# Altium integrated library NSC Switcher.IntLib: 922 symbols (part 19 of 24)
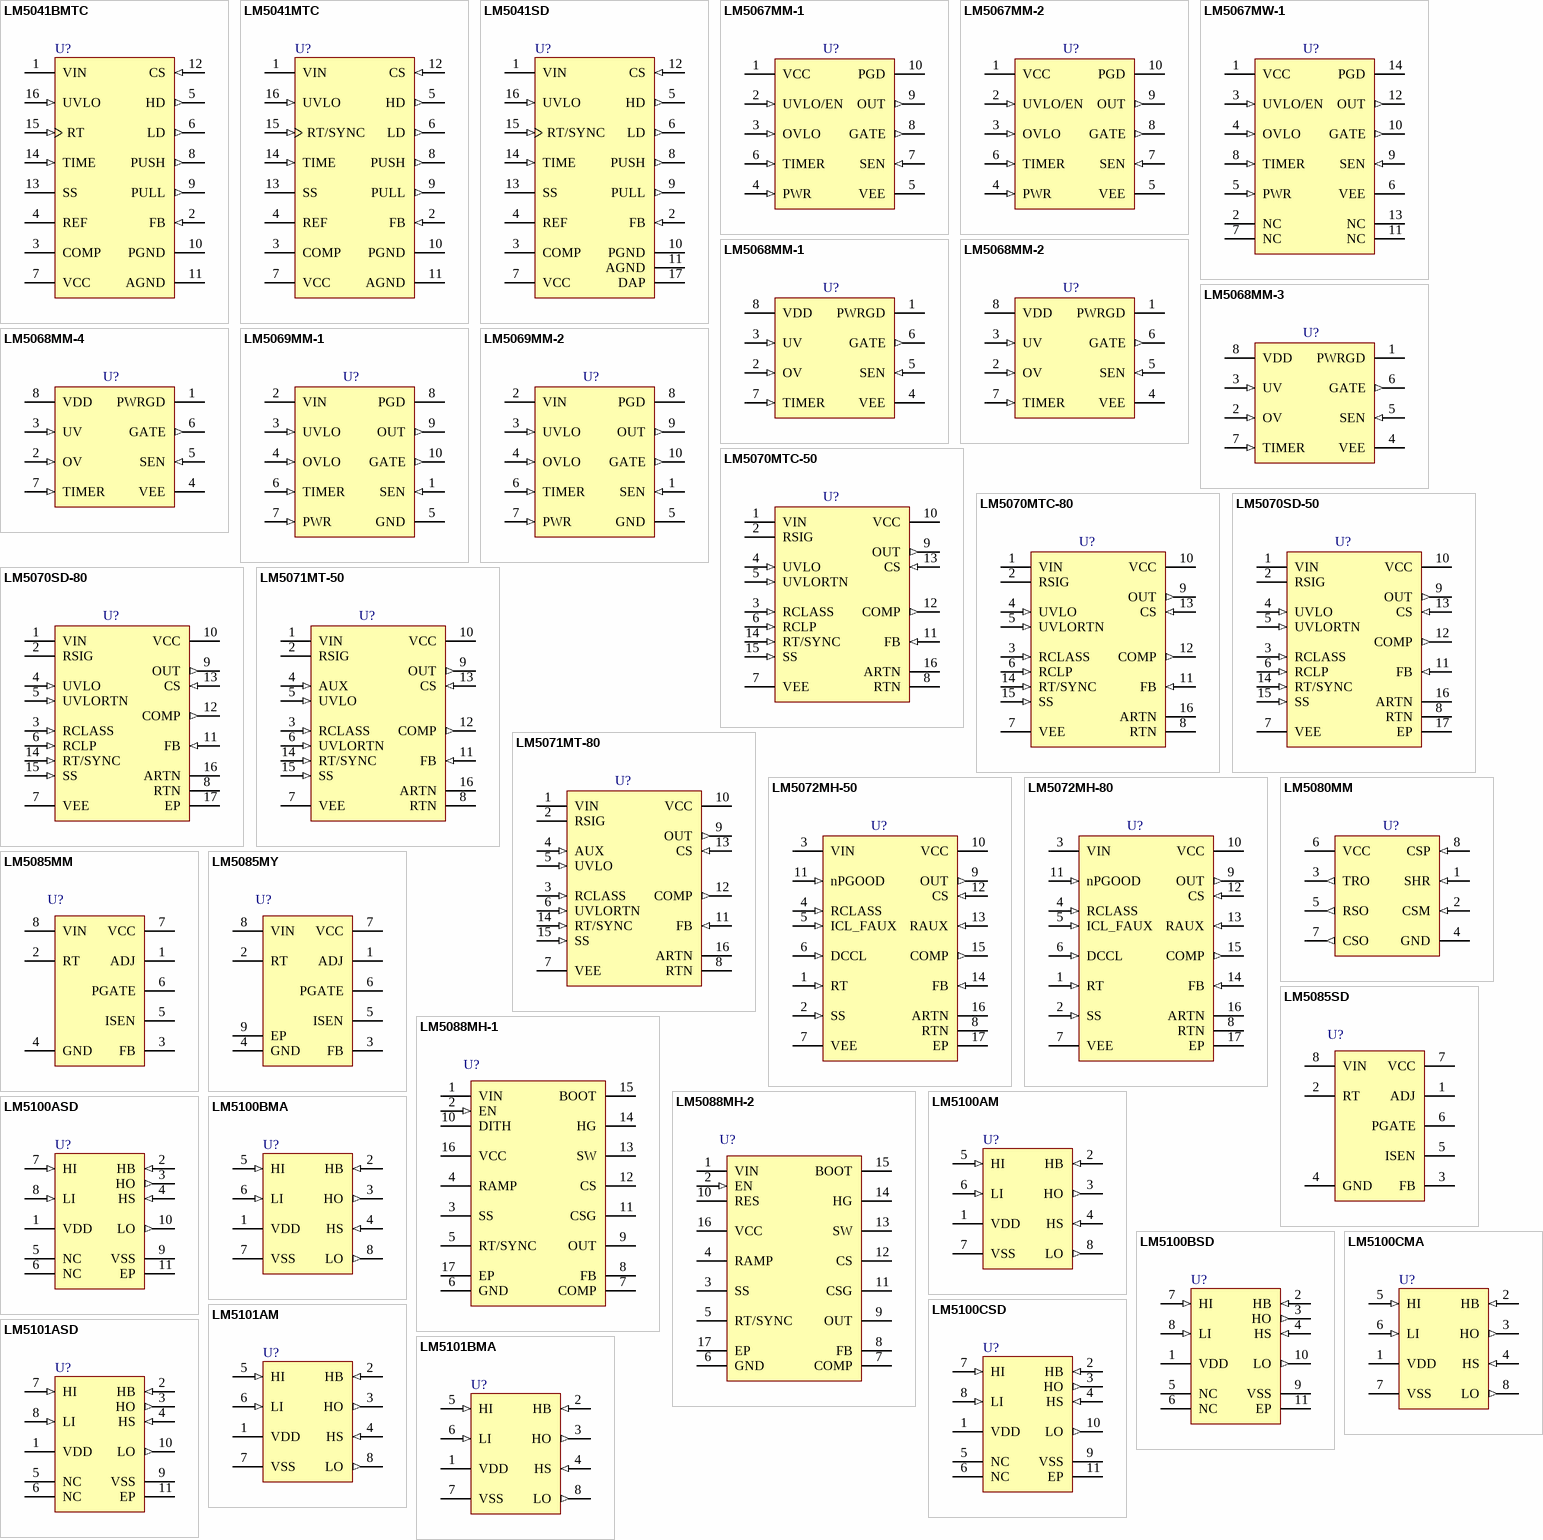
[diagram p46: symbols LM5041BMTC to LM5101BMA]

## LM5072MH-80
designator U?
Integrated 100V Power Over Ethernet PD Interface and PWM Controller with Aux Support; PartNumber: LM5072MH-80; Manufacturer: National Semiconductor; CompType: Switcher; PackageTopMarking: NSUZXYTT*LM5072*MH-80; FirstPublished: 4-Dec-2008; DatasheetVersion: Oct-2007; PackageVersion: revA, Apr-2003; PackageReference: MXA16A; Publisher: Altium Limited; PackageDescription: Molded TSSOP, Jedec, Exposed Pad, 5.0 x 4.4 x 0.9mm Body,16 Lead, 0.65mm Pitch; RoHS: O; PinCount: 16; DigiKeyPartNumber: LM5072MH-80-ND; Code_JEDEC: MO-153-ABT; ComponentLink1Description: LM5072 Datasheet; ComponentLink1URL: http://www.national.com/ds/LM/LM5072.pdf; ComponentLink2Description: LM5072 Web Page; ComponentLink2URL: http://www.national.com/pf/LM/LM5072.html; ComponentLink3Description: MXA16A Package Drawing; ComponentLink3URL: http://www.national.com/packaging/folders/mxa16a.html
footprint MXA16A_N (TSOP, 16-Leads, Body 5x4.4mm, Pitch 0.65mm, Exposed Pad, IPC Medium Density)
footprint MXA16A_L (TSOP, 16-Leads, Body 5x4.4mm, Pitch 0.65mm, Exposed Pad, IPC High Density)
footprint MXA16A_M (TSOP, 16-Leads, Body 5x4.4mm, Pitch 0.65mm, Exposed Pad, IPC Low Density)
pins: 1 RT (in) "PWM controller oscillator frequency programming pin.", 2 SS (in) "Soft-start programming pin.", 3 VIN (power) "Positive supply pin for the PD interface and the internal PWM controller start-up regulator.", 4 RCLASS (in) "PD classification programming pin.", 5 ICL_FAUX (in) "Inrush current limit programming pin; also the front auxiliary power enable pin.", 6 DCCL (in) "PD interface DC current limit programming pin.", 7 VEE (power) "Negative supply pin for PD interface; connected to PoE and/or front auxiliary power return path.", 8 RTN (power) "PWM controller power return.", 9 OUT (out) "PWM controller gate driver output pin.", 10 VCC (power) "PWM controller start-up regulator output pin.", 11 nPGOOD (in) "PD interface Power Good indicator and delay timer pin; active low state indicates PoE interface is in normal operation.", 12 CS (in) "PWM controller current sense input pin.", 13 RAUX (in) "Rear auxiliary power enable pin; can be programmed for auxiliary power dominance over PoE power.", 14 FB (in) "PWM controller voltage feedback pin and inverting input of the internal error amplifier.", 15 COMP (out) "Output of the internal error amplifier and control input to the PWM comparator.", 16 ARTN (power) "PWM controller reference ground pin.", 17 EP (power) "Exposed metal pad on the underside of the device."

## LM5080MM
designator U?
Modular Current Sharing Controller; PartNumber: LM5080MM; Manufacturer: National Semiconductor; CompType: Switcher; PackageTopMarking: ZXTT*SHUB; FirstPublished: 4-Dec-2008; DatasheetVersion: Jan-2006; PackageVersion: revF, Apr-2008; PackageReference: MUA08A; Publisher: Altium Limited; PackageDescription: MINI SOIC, .118 x .118 x .034in, 8 Lead, .0256in Pitch; RoHS: Y; PinCount: 8; DigiKeyPartNumber: LM5080MMCT-ND; Code_JEDEC: MO-187-AA; ComponentLink1Description: LM5080 Datasheet; ComponentLink1URL: http://www.national.com/ds/LM/LM5080.pdf; ComponentLink2Description: LM5080 Web Page; ComponentLink2URL: http://www.national.com/pf/LM/LM5080.html; ComponentLink3Description: MUA08A Package Drawing; ComponentLink3URL: http://www.national.com/packaging/folders/mua08a.html
footprint MUA08A_N (TSOP, 8-Leads, Body 3x3mm, Pitch 0.65mm, IPC Medium Density)
footprint MUA08A_L (TSOP, 8-Leads, Body 3x3mm, Pitch 0.65mm, IPC High Density)
footprint MUA08A_M (TSOP, 8-Leads, Body 3x3mm, Pitch 0.65mm, IPC Low Density)
pins: 1 SHR (in), 2 CSM (in), 3 TRO (out), 4 GND (power), 5 RSO (out), 6 VCC (power), 7 CSO (out), 8 CSP (in)

## LM5085MM
designator U?
75V Constant On-Time PFET Buck Switching Controller; PartNumber: LM5085MM; Manufacturer: National Semiconductor; CompType: Switcher; PackageTopMarking: ZXTT*SSTB; PowerWise: Y; FirstPublished: 29-May-2009; DatasheetVersion: Feb-2009; PackageVersion: revF, Apr-2008; PackageReference: MUA08A; Publisher: Altium Limited; PackageDescription: MINI SOIC, .118 x .118 x .034in, 8 Lead, .0256in Pitch; RoHS: Y; PinCount: 8; DigiKeyPartNumber: LM5085MM-ND; Code_JEDEC: MO-187-AA; ComponentLink1Description: LM5085 Datasheet; ComponentLink1URL: http://www.national.com/ds/LM/LM5085.pdf; ComponentLink2Description: LM5085 Web Page; ComponentLink2URL: http://www.national.com/pf/LM/LM5085.html; ComponentLink3Description: MUA08A Package Page; ComponentLink3URL: http://www.national.com/packaging/folders/mua08a.html
footprint MUA08A_N (TSOP, 8-Leads, Body 3x3mm, Pitch 0.65mm, IPC Medium Density)
footprint MUA08A_L (TSOP, 8-Leads, Body 3x3mm, Pitch 0.65mm, IPC High Density)
footprint MUA08A_M (TSOP, 8-Leads, Body 3x3mm, Pitch 0.65mm, IPC Low Density)
pins: 1 ADJ, 2 RT, 3 FB, 4 GND (power), 5 ISEN, 6 PGATE, 7 VCC (power), 8 VIN

## LM5085MY
designator U?
75V Constant On-Time PFET Buck Switching Controller; PartNumber: LM5085MY; Manufacturer: National Semiconductor; CompType: Switcher; PackageTopMarking: ZXTT*SSSB; PowerWise: Y; FirstPublished: 29-May-2009; DatasheetVersion: Feb-2009; PackageVersion: revA, Nov-2003; PackageReference: MUY08A; Publisher: Altium Limited; PackageDescription: Molded Mini-SO, Exposed Pad, .118 x .118 x .034in Body, 8 Lead, .0256in Pitch; RoHS: Y; PinCount: 8; DigiKeyPartNumber: LM5085MY-ND; Code_JEDEC: MO-187-AA; ComponentLink1Description: LM5085 Datasheet; ComponentLink1URL: http://www.national.com/ds/LM/LM5085.pdf; ComponentLink2Description: LM5085 Web Page; ComponentLink2URL: http://www.national.com/pf/LM/LM5085.html; ComponentLink3Description: MUY08A Package Page; ComponentLink3URL: http://www.national.com/packaging/folders/muy08a.html
footprint MUY08A_N (TSOP, 8-Leads, Body 3x3mm, Pitch 0.65mm, Exposed Pad, IPC Medium Density)
footprint MUY08A_L (TSOP, 8-Leads, Body 3x3mm, Pitch 0.65mm, Exposed Pad, IPC High Density)
footprint MUY08A_M (TSOP, 8-Leads, Body 3x3mm, Pitch 0.65mm, Exposed Pad, IPC Low Density)
pins: 1 ADJ, 2 RT, 3 FB, 4 GND (power), 5 ISEN, 6 PGATE, 7 VCC (power), 8 VIN, 9 EP

## LM5085SD
designator U?
75V Constant On-Time PFET Buck Switching Controller; PartNumber: LM5085SD; Manufacturer: National Semiconductor; CompType: Switcher; PackageTopMarking: ZXYTT*L245B; PowerWise: Y; FirstPublished: 29-May-2009; DatasheetVersion: Feb-2009; PackageVersion: revA, Aug-2003; PackageReference: SDA08A; Publisher: Altium Limited; PackageDescription: LLP, Plastic, Dual, 3 x 3 x 0.8mm Body, 8 Lead, 0.5mm Pitch, No Pullback; RoHS: Y; PinCount: 8; DigiKeyPartNumber: LM5085SD-ND; ComponentLink1Description: LM5085 Datasheet; ComponentLink1URL: http://www.national.com/ds/LM/LM5085.pdf; ComponentLink2Description: LM5085 Web Page; ComponentLink2URL: http://www.national.com/pf/LM/LM5085.html; ComponentLink3Description: SDA08A Package Page; ComponentLink3URL: http://www.national.com/packaging/folders/sda08a.html
footprint SDA08A (SON, 8-Leads, Body 3x3mm, Pitch 0.5mm, NSC Recommended)
pins: 1 ADJ, 2 RT, 3 FB, 4 GND (power), 5 ISEN, 6 PGATE, 7 VCC (power), 8 VIN

## LM5088MH-1
designator U?
Wide Input Range Non-Synchronous Buck Controller; PartNumber: LM5088MH-1; Manufacturer: National Semiconductor; CompType: Switcher; PackageTopMarking: NSUZXYTT*LM5088*MH-1; PowerWise: Y; FirstPublished: 29-May-2009; DatasheetVersion: Dec-2008; PackageVersion: revA, Apr-2003; PackageReference: MXA16A; Publisher: Altium Limited; PackageDescription: Molded TSSOP, Jedec, Exposed Pad, 5.0 x 4.4 x 0.9mm Body,16 Lead, 0.65mm Pitch; RoHS: Y; PinCount: 16; DigiKeyPartNumber: LM5088MH-1-ND; Code_JEDEC: MO-153-ABT; ComponentLink1Description: LM5088 Datasheet; ComponentLink1URL: http://www.national.com/ds/LM/LM5088.pdf; ComponentLink2Description: LM5088 Web Page; ComponentLink2URL: http://www.national.com/pf/LM/LM5088.html; ComponentLink3Description: MXA16A Package Page; ComponentLink3URL: http://www.national.com/packaging/folders/mxa16a.html
footprint MXA16A_N (TSOP, 16-Leads, Body 5x4.4mm, Pitch 0.65mm, Exposed Pad, IPC Medium Density)
footprint MXA16A_L (TSOP, 16-Leads, Body 5x4.4mm, Pitch 0.65mm, Exposed Pad, IPC High Density)
footprint MXA16A_M (TSOP, 16-Leads, Body 5x4.4mm, Pitch 0.65mm, Exposed Pad, IPC Low Density)
pins: 1 VIN, 2 EN (in), 3 SS, 4 RAMP, 5 RT/SYNC, 6 GND (power), 7 COMP (power), 8 FB (power), 9 OUT, 10 DITH, 11 CSG (power), 12 CS, 13 SW (power), 14 HG (power), 15 BOOT, 16 VCC (power), 17 EP

## LM5088MH-2
designator U?
Wide Input Range Non-Synchronous Buck Controller; PartNumber: LM5088MH-2; Manufacturer: National Semiconductor; CompType: Switcher; PackageTopMarking: NSUZXYTT*LM5088*MH-2; PowerWise: Y; FirstPublished: 29-May-2009; DatasheetVersion: Dec-2008; PackageVersion: revA, Apr-2003; PackageReference: MXA16A; Publisher: Altium Limited; PackageDescription: Molded TSSOP, Jedec, Exposed Pad, 5.0 x 4.4 x 0.9mm Body,16 Lead, 0.65mm Pitch; RoHS: Y; PinCount: 16; DigiKeyPartNumber: LM5088MH-2-ND; Code_JEDEC: MO-153-ABT; ComponentLink1Description: LM5088 Datasheet; ComponentLink1URL: http://www.national.com/ds/LM/LM5088.pdf; ComponentLink2Description: LM5088 Web Page; ComponentLink2URL: http://www.national.com/pf/LM/LM5088.html; ComponentLink3Description: MXA16A Package Page; ComponentLink3URL: http://www.national.com/packaging/folders/mxa16a.html
footprint MXA16A_N (TSOP, 16-Leads, Body 5x4.4mm, Pitch 0.65mm, Exposed Pad, IPC Medium Density)
footprint MXA16A_L (TSOP, 16-Leads, Body 5x4.4mm, Pitch 0.65mm, Exposed Pad, IPC High Density)
footprint MXA16A_M (TSOP, 16-Leads, Body 5x4.4mm, Pitch 0.65mm, Exposed Pad, IPC Low Density)
pins: 1 VIN, 2 EN (in), 3 SS, 4 RAMP, 5 RT/SYNC, 6 GND (power), 7 COMP (power), 8 FB (power), 9 OUT, 10 RES, 11 CSG (power), 12 CS, 13 SW (power), 14 HG (power), 15 BOOT, 16 VCC (power), 17 EP

## LM5100AM
designator U?
3A High Voltage High-Side and Low-Side Gate Driver; PartNumber: LM5100AM; Manufacturer: National Semiconductor; CompType: Switcher; PackageTopMarking: NSZXTT*L5100*AM; FirstPublished: 4-Dec-2008; DatasheetVersion: Nov-2006; PackageVersion: revL, Sep-2006; PackageReference: M08A; Publisher: Altium Limited; PackageDescription: SOIC Narrow, 4.9 x 3.9 x 1.45mm, 8 Lead, 1.27mm Pitch; RoHS: Y; PinCount: 8; DigiKeyPartNumber: LM5100AM-ND; Code_JEDEC: MS-012-AA; Code_IPC: SOIC127P600-8; ComponentLink1Description: LM5100A Datasheet; ComponentLink1URL: http://www.national.com/ds/LM/LM5100A.pdf; ComponentLink2Description: LM5100A Web Page; ComponentLink2URL: http://www.national.com/pf/LM/LM5100A.html; ComponentLink3Description: M08A Package Drawing; ComponentLink3URL: http://www.national.com/packaging/folders/m08a.html
footprint M08A_N (SOIC, 8-Leads, Body 4.9x3.9mm, Pitch 1.27mm, IPC Medium Density)
footprint M08A_L (SOIC, 8-Leads, Body 4.9x3.9mm, Pitch 1.27mm, IPC High Density)
footprint M08A_M (SOIC, 8-Leads, Body 4.9x3.9mm, Pitch 1.27mm, IPC Low Density)
pins: 1 VDD (power), 2 HB (in), 3 HO (out), 4 HS (in), 5 HI (in), 6 LI (in), 7 VSS (power), 8 LO (out)

## LM5100ASD
designator U?
3A High Voltage High-Side and Low-Side Gate Driver; PartNumber: LM5100ASD; Manufacturer: National Semiconductor; CompType: Switcher; PackageTopMarking: NS*UZXYTT*5100ASD; FirstPublished: 4-Dec-2008; DatasheetVersion: Nov-2006; PackageVersion: revA, May-2003; PackageReference: SDC10A; Publisher: Altium Limited; PackageDescription: LLP, Plastic, Dual, 4 x 4 x 0.8mm Body, 10 Lead, 0.8mm Pitch, No Pullback; RoHS: Y; PinCount: 10; DigiKeyPartNumber: LM5100ASDCT-ND; ComponentLink1Description: LM5100A Datasheet; ComponentLink1URL: http://www.national.com/ds/LM/LM5100A.pdf; ComponentLink2Description: LM5100A Web Page; ComponentLink2URL: http://www.national.com/pf/LM/LM5100A.html; ComponentLink3Description: SDC10A Package Drawing; ComponentLink3URL: http://www.national.com/packaging/folders/sdc10a.html
footprint SDC10A (SON, 10-Leads, Body 4x4 mm, Pitch 0.8mm, NSC Recommended)
pins: 1 VDD (power), 2 HB (in), 3 HO (out), 4 HS (in), 5 NC, 6 NC, 7 HI (in), 8 LI (in), 9 VSS (power), 10 LO (out), 11 EP (power)

## LM5100BMA
designator U?
2A High Voltage High-Side and Low-Side Gate Driver; PartNumber: LM5100BMA; Manufacturer: National Semiconductor; CompType: Switcher; PackageTopMarking: NSZXTT*L5100*BMA; FirstPublished: 4-Dec-2008; DatasheetVersion: Nov-2006; PackageVersion: revL, Sep-2006; PackageReference: M08A; Publisher: Altium Limited; PackageDescription: SOIC Narrow, 4.9 x 3.9 x 1.45mm, 8 Lead, 1.27mm Pitch; RoHS: Y; PinCount: 8; DigiKeyPartNumber: LM5100BMA-ND; Code_JEDEC: MS-012-AA; Code_IPC: SOIC127P600-8; ComponentLink1Description: LM5100B Datasheet; ComponentLink1URL: http://www.national.com/ds/LM/LM5100B.pdf; ComponentLink2Description: LM5100B Web Page; ComponentLink2URL: http://www.national.com/pf/LM/LM5100B.html; ComponentLink3Description: M08A Package Drawing; ComponentLink3URL: http://www.national.com/packaging/folders/m08a.html
footprint M08A_N (SOIC, 8-Leads, Body 4.9x3.9mm, Pitch 1.27mm, IPC Medium Density)
footprint M08A_L (SOIC, 8-Leads, Body 4.9x3.9mm, Pitch 1.27mm, IPC High Density)
footprint M08A_M (SOIC, 8-Leads, Body 4.9x3.9mm, Pitch 1.27mm, IPC Low Density)
pins: 1 VDD (power), 2 HB (in), 3 HO (out), 4 HS (in), 5 HI (in), 6 LI (in), 7 VSS (power), 8 LO (out)

## LM5100BSD
designator U?
2A High Voltage High-Side and Low-Side Gate Driver; PartNumber: LM5100BSD; Manufacturer: National Semiconductor; CompType: Switcher; PackageTopMarking: NS*UZXYTT*5100BSD; FirstPublished: 4-Dec-2008; DatasheetVersion: Nov-2006; PackageVersion: revA, May-2003; PackageReference: SDC10A; Publisher: Altium Limited; PackageDescription: LLP, Plastic, Dual, 4 x 4 x 0.8mm Body, 10 Lead, 0.8mm Pitch, No Pullback; RoHS: Y; PinCount: 10; DigiKeyPartNumber: LM5100BSDCT-ND; ComponentLink1Description: LM5100B Datasheet; ComponentLink1URL: http://www.national.com/ds/LM/LM5100B.pdf; ComponentLink2Description: LM5100B Web Page; ComponentLink2URL: http://www.national.com/pf/LM/LM5100B.html; ComponentLink3Description: SDC10A Package Drawing; ComponentLink3URL: http://www.national.com/packaging/folders/sdc10a.html
footprint SDC10A (SON, 10-Leads, Body 4x4 mm, Pitch 0.8mm, NSC Recommended)
pins: 1 VDD (power), 2 HB (in), 3 HO (out), 4 HS (in), 5 NC, 6 NC, 7 HI (in), 8 LI (in), 9 VSS (power), 10 LO (out), 11 EP (power)

## LM5100CMA
designator U?
1A High Voltage High-Side and Low-Side Gate Driver; PartNumber: LM5100CMA; Manufacturer: National Semiconductor; CompType: Switcher; PackageTopMarking: NSZXTT*L5100*CMA; FirstPublished: 4-Dec-2008; DatasheetVersion: Nov-2006; PackageVersion: revL, Sep-2006; PackageReference: M08A; Publisher: Altium Limited; PackageDescription: SOIC Narrow, 4.9 x 3.9 x 1.45mm, 8 Lead, 1.27mm Pitch; RoHS: Y; PinCount: 8; DigiKeyPartNumber: LM5100CMA-ND; Code_JEDEC: MS-012-AA; Code_IPC: SOIC127P600-8; ComponentLink1Description: LM5100C Datasheet; ComponentLink1URL: http://www.national.com/ds/LM/LM5100C.pdf; ComponentLink2Description: LM5100C Web Page; ComponentLink2URL: http://www.national.com/pf/LM/LM5100C.html; ComponentLink3Description: M08A Package Drawing; ComponentLink3URL: http://www.national.com/packaging/folders/m08a.html
footprint M08A_N (SOIC, 8-Leads, Body 4.9x3.9mm, Pitch 1.27mm, IPC Medium Density)
footprint M08A_L (SOIC, 8-Leads, Body 4.9x3.9mm, Pitch 1.27mm, IPC High Density)
footprint M08A_M (SOIC, 8-Leads, Body 4.9x3.9mm, Pitch 1.27mm, IPC Low Density)
pins: 1 VDD (power), 2 HB (in), 3 HO (out), 4 HS (in), 5 HI (in), 6 LI (in), 7 VSS (power), 8 LO (out)

## LM5100CSD
designator U?
1A High Voltage High-Side and Low-Side Gate Driver; PartNumber: LM5100CSD; Manufacturer: National Semiconductor; CompType: Switcher; PackageTopMarking: NS*UZXYTT*5100CSD; FirstPublished: 4-Dec-2008; DatasheetVersion: Nov-2006; PackageVersion: revA, May-2003; PackageReference: SDC10A; Publisher: Altium Limited; PackageDescription: LLP, Plastic, Dual, 4 x 4 x 0.8mm Body, 10 Lead, 0.8mm Pitch, No Pullback; RoHS: Y; PinCount: 10; DigiKeyPartNumber: LM5100CSDCT-ND; ComponentLink1Description: LM5100C Datasheet; ComponentLink1URL: http://www.national.com/ds/LM/LM5100C.pdf; ComponentLink2Description: LM5100C Web Page; ComponentLink2URL: http://www.national.com/pf/LM/LM5100C.html; ComponentLink3Description: SDC10A Package Drawing; ComponentLink3URL: http://www.national.com/packaging/folders/sdc10a.html
footprint SDC10A (SON, 10-Leads, Body 4x4 mm, Pitch 0.8mm, NSC Recommended)
pins: 1 VDD (power), 2 HB (in), 3 HO (out), 4 HS (in), 5 NC, 6 NC, 7 HI (in), 8 LI (in), 9 VSS (power), 10 LO (out), 11 EP (power)

## LM5101AM
designator U?
3A High Voltage High-Side and Low-Side Gate Driver; PartNumber: LM5101AM; Manufacturer: National Semiconductor; CompType: Switcher; PackageTopMarking: NSZXTT*L5101*AM; FirstPublished: 4-Dec-2008; DatasheetVersion: Nov-2006; PackageVersion: revL, Sep-2006; PackageReference: M08A; Publisher: Altium Limited; PackageDescription: SOIC Narrow, 4.9 x 3.9 x 1.45mm, 8 Lead, 1.27mm Pitch; RoHS: Y; PinCount: 8; DigiKeyPartNumber: LM5101AM-ND; Code_JEDEC: MS-012-AA; Code_IPC: SOIC127P600-8; ComponentLink1Description: LM5101A Datasheet; ComponentLink1URL: http://www.national.com/ds/LM/LM5101A.pdf; ComponentLink2Description: LM5101A Web Page; ComponentLink2URL: http://www.national.com/pf/LM/LM5101A.html; ComponentLink3Description: M08A Package Drawing; ComponentLink3URL: http://www.national.com/packaging/folders/m08a.html
footprint M08A_N (SOIC, 8-Leads, Body 4.9x3.9mm, Pitch 1.27mm, IPC Medium Density)
footprint M08A_L (SOIC, 8-Leads, Body 4.9x3.9mm, Pitch 1.27mm, IPC High Density)
footprint M08A_M (SOIC, 8-Leads, Body 4.9x3.9mm, Pitch 1.27mm, IPC Low Density)
pins: 1 VDD (power), 2 HB (in), 3 HO (out), 4 HS (in), 5 HI (in), 6 LI (in), 7 VSS (power), 8 LO (out)

## LM5101ASD
designator U?
3A High Voltage High-Side and Low-Side Gate Driver; PartNumber: LM5101ASD; Manufacturer: National Semiconductor; CompType: Switcher; PackageTopMarking: NS*UZXYTT*5101ASD; FirstPublished: 4-Dec-2008; DatasheetVersion: Nov-2006; PackageVersion: revA, May-2003; PackageReference: SDC10A; Publisher: Altium Limited; PackageDescription: LLP, Plastic, Dual, 4 x 4 x 0.8mm Body, 10 Lead, 0.8mm Pitch, No Pullback; RoHS: O; PinCount: 10; DigiKeyPartNumber: LM5101ASDCT-ND; ComponentLink1Description: LM5101A Datasheet; ComponentLink1URL: http://www.national.com/ds/LM/LM5101A.pdf; ComponentLink2Description: LM5101A Web Page; ComponentLink2URL: http://www.national.com/pf/LM/LM5101A.html; ComponentLink3Description: SDC10A Package Drawing; ComponentLink3URL: http://www.national.com/packaging/folders/sdc10a.html
footprint SDC10A (SON, 10-Leads, Body 4x4 mm, Pitch 0.8mm, NSC Recommended)
pins: 1 VDD (power), 2 HB (in), 3 HO (out), 4 HS (in), 5 NC, 6 NC, 7 HI (in), 8 LI (in), 9 VSS (power), 10 LO (out), 11 EP (power)

## LM5101BMA
designator U?
2A High Voltage High-Side and Low-Side Gate Driver; PartNumber: LM5101BMA; Manufacturer: National Semiconductor; CompType: Switcher; PackageTopMarking: NSZXTT*L5101*BMA; FirstPublished: 4-Dec-2008; DatasheetVersion: Nov-2006; PackageVersion: revL, Sep-2006; PackageReference: M08A; Publisher: Altium Limited; PackageDescription: SOIC Narrow, 4.9 x 3.9 x 1.45mm, 8 Lead, 1.27mm Pitch; RoHS: Y; PinCount: 8; DigiKeyPartNumber: LM5101BMA-ND; Code_JEDEC: MS-012-AA; Code_IPC: SOIC127P600-8; ComponentLink1Description: LM5101B Datasheet; ComponentLink1URL: http://www.national.com/ds/LM/LM5101B.pdf; ComponentLink2Description: LM5101B Web Page; ComponentLink2URL: http://www.national.com/pf/LM/LM5101B.html; ComponentLink3Description: M08A Package Drawing; ComponentLink3URL: http://www.national.com/packaging/folders/m08a.html
footprint M08A_N (SOIC, 8-Leads, Body 4.9x3.9mm, Pitch 1.27mm, IPC Medium Density)
footprint M08A_L (SOIC, 8-Leads, Body 4.9x3.9mm, Pitch 1.27mm, IPC High Density)
footprint M08A_M (SOIC, 8-Leads, Body 4.9x3.9mm, Pitch 1.27mm, IPC Low Density)
pins: 1 VDD (power), 2 HB (in), 3 HO (out), 4 HS (in), 5 HI (in), 6 LI (in), 7 VSS (power), 8 LO (out)

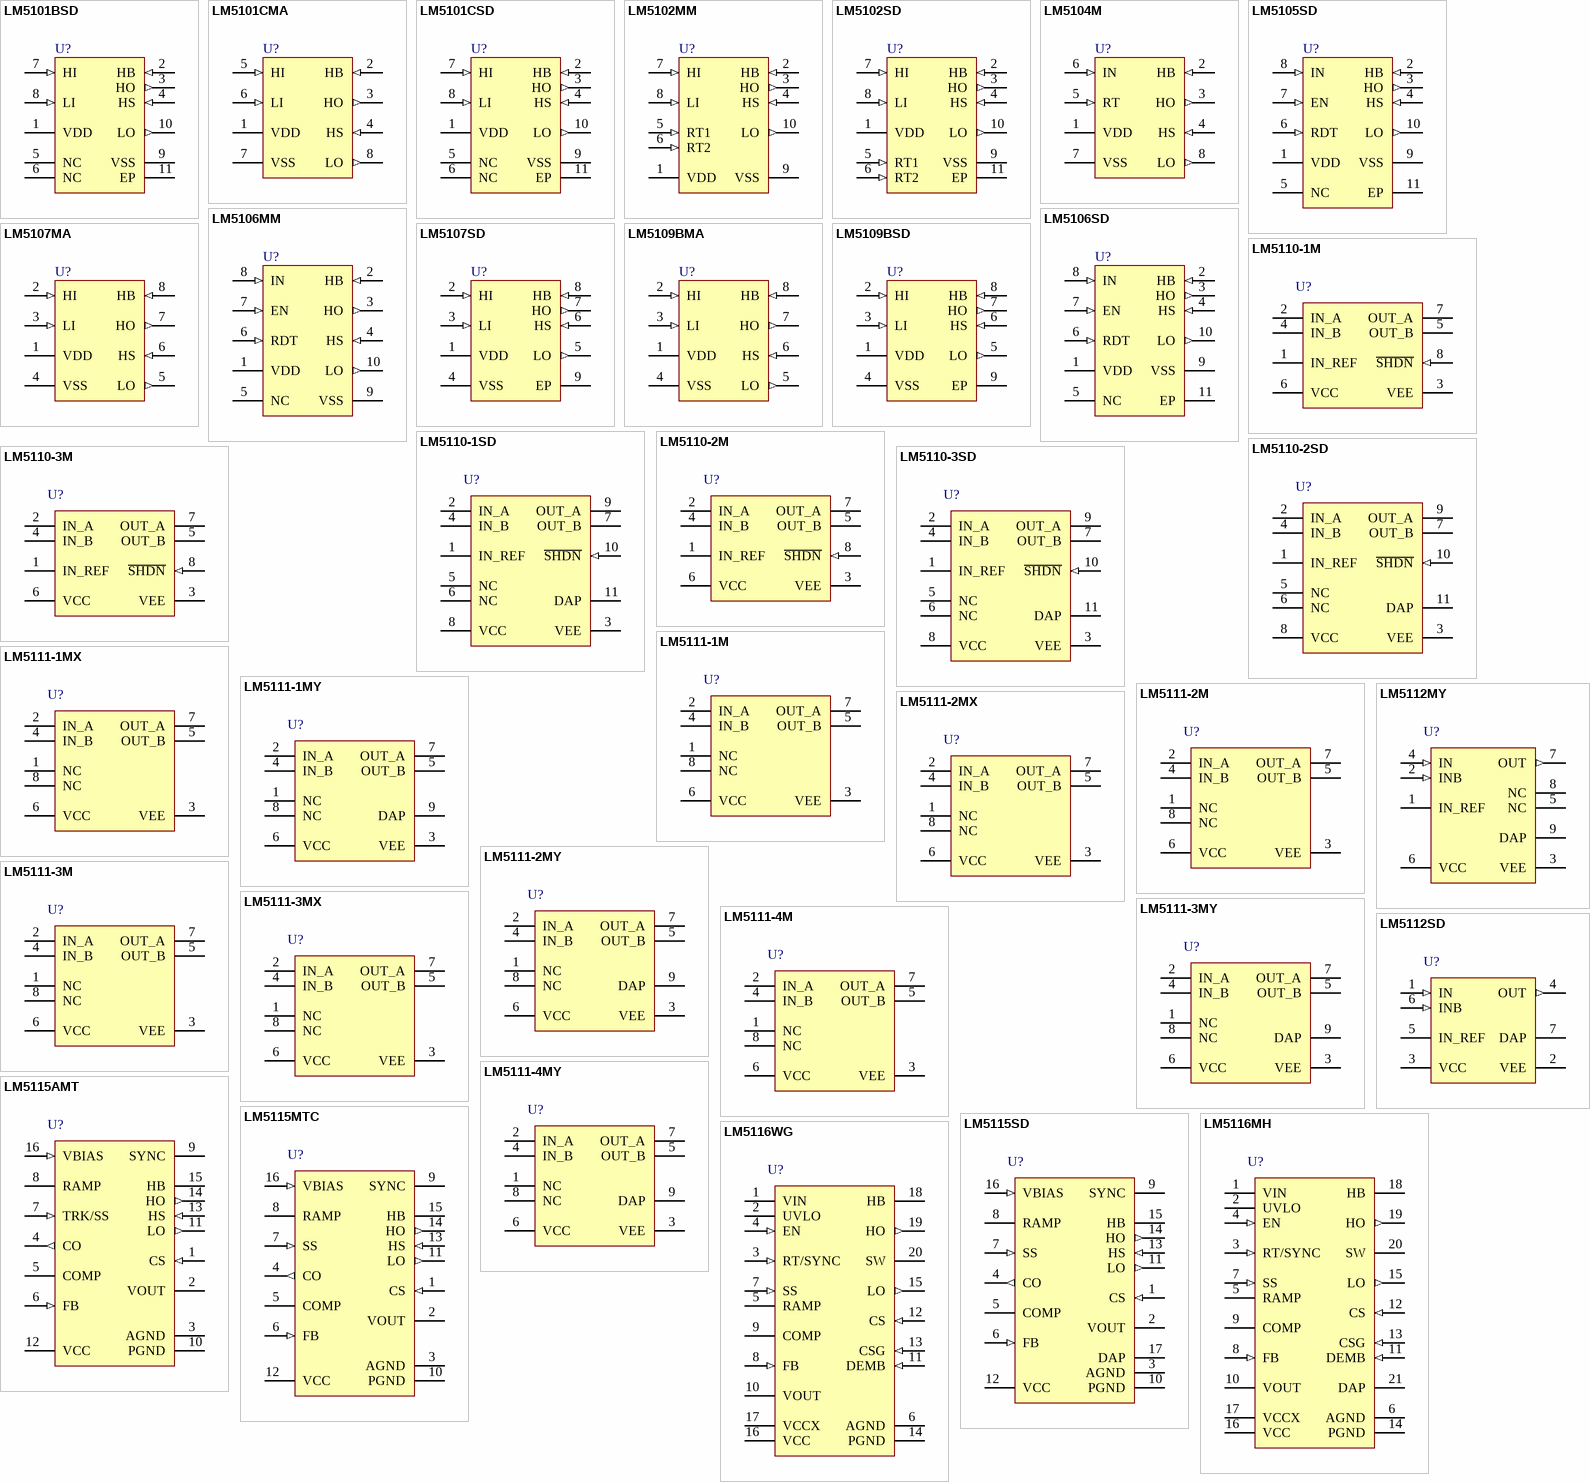
[diagram p22: symbols LM5101BSD to LM5116WG]

## LM5101BSD
designator U?
2A High Voltage High-Side and Low-Side Gate Driver; PartNumber: LM5101BSD; Manufacturer: National Semiconductor; CompType: Switcher; PackageTopMarking: NS*UZXYTT*5101BSD; FirstPublished: 4-Dec-2008; DatasheetVersion: Nov-2006; PackageVersion: revA, May-2003; PackageReference: SDC10A; Publisher: Altium Limited; PackageDescription: LLP, Plastic, Dual, 4 x 4 x 0.8mm Body, 10 Lead, 0.8mm Pitch, No Pullback; RoHS: Y; PinCount: 10; DigiKeyPartNumber: LM5101BSDCT-ND; ComponentLink1Description: LM5101B Datasheet; ComponentLink1URL: http://www.national.com/ds/LM/LM5101B.pdf; ComponentLink2Description: LM5101B Web Page; ComponentLink2URL: http://www.national.com/pf/LM/LM5101B.html; ComponentLink3Description: SDC10A Package Drawing; ComponentLink3URL: http://www.national.com/packaging/folders/sdc10a.html
footprint SDC10A (SON, 10-Leads, Body 4x4 mm, Pitch 0.8mm, NSC Recommended)
pins: 1 VDD (power), 2 HB (in), 3 HO (out), 4 HS (in), 5 NC, 6 NC, 7 HI (in), 8 LI (in), 9 VSS (power), 10 LO (out), 11 EP (power)

## LM5101CMA
designator U?
1A High Voltage High-Side and Low-Side Gate Driver; PartNumber: LM5101CMA; Manufacturer: National Semiconductor; CompType: Switcher; PackageTopMarking: NSZXTT*L5101*CMA; FirstPublished: 4-Dec-2008; DatasheetVersion: Nov-2006; PackageVersion: revL, Sep-2006; PackageReference: M08A; Publisher: Altium Limited; PackageDescription: SOIC Narrow, 4.9 x 3.9 x 1.45mm, 8 Lead, 1.27mm Pitch; RoHS: Y; PinCount: 8; DigiKeyPartNumber: LM5101CMA-ND; Code_JEDEC: MS-012-AA; Code_IPC: SOIC127P600-8; ComponentLink1Description: LM5101C Datasheet; ComponentLink1URL: http://www.national.com/ds/LM/LM5101C.pdf; ComponentLink2Description: LM5101C Web Page; ComponentLink2URL: http://www.national.com/pf/LM/LM5101C.html; ComponentLink3Description: M08A Package Drawing; ComponentLink3URL: http://www.national.com/packaging/folders/m08a.html
footprint M08A_N (SOIC, 8-Leads, Body 4.9x3.9mm, Pitch 1.27mm, IPC Medium Density)
footprint M08A_L (SOIC, 8-Leads, Body 4.9x3.9mm, Pitch 1.27mm, IPC High Density)
footprint M08A_M (SOIC, 8-Leads, Body 4.9x3.9mm, Pitch 1.27mm, IPC Low Density)
pins: 1 VDD (power), 2 HB (in), 3 HO (out), 4 HS (in), 5 HI (in), 6 LI (in), 7 VSS (power), 8 LO (out)

## LM5101CSD
designator U?
1A High Voltage High-Side and Low-Side Gate Driver; PartNumber: LM5101CSD; Manufacturer: National Semiconductor; CompType: Switcher; PackageTopMarking: NS*UZXYTT*5101CSD; FirstPublished: 4-Dec-2008; DatasheetVersion: Nov-2006; PackageVersion: revA, May-2003; PackageReference: SDC10A; Publisher: Altium Limited; PackageDescription: LLP, Plastic, Dual, 4 x 4 x 0.8mm Body, 10 Lead, 0.8mm Pitch, No Pullback; RoHS: Y; PinCount: 10; DigiKeyPartNumber: LM5101CSDCT-ND; ComponentLink1Description: LM5101C Datasheet; ComponentLink1URL: http://www.national.com/ds/LM/LM5101C.pdf; ComponentLink2Description: LM5101C Web Page; ComponentLink2URL: http://www.national.com/pf/LM/LM5101C.html; ComponentLink3Description: SDC10A Package Drawing; ComponentLink3URL: http://www.national.com/packaging/folders/sdc10a.html
footprint SDC10A (SON, 10-Leads, Body 4x4 mm, Pitch 0.8mm, NSC Recommended)
pins: 1 VDD (power), 2 HB (in), 3 HO (out), 4 HS (in), 5 NC, 6 NC, 7 HI (in), 8 LI (in), 9 VSS (power), 10 LO (out), 11 EP (power)

## LM5102MM
designator U?
High Voltage Half-Bridge Gate Driver with Programmable Delay; PartNumber: LM5102MM; Manufacturer: National Semiconductor; CompType: Switcher; PackageTopMarking: ZXTT*5102; FirstPublished: 4-Dec-2008; DatasheetVersion: Jan-2004; PackageVersion: revB, Jul-2003; PackageReference: MUB10A; Publisher: Altium Limited; PackageDescription: Mini-SO, Molded, .118 x .118 x .034in Body, 10 Lead, .0197in Pitch; RoHS: Y; PinCount: 10; DigiKeyPartNumber: LM5102MMCT-ND; Code_JEDEC: MO-187-BA; ComponentLink1Description: LM5102 Datasheet; ComponentLink1URL: http://www.national.com/ds/LM/LM5102.pdf; ComponentLink2Description: LM5102 Web Page; ComponentLink2URL: http://www.national.com/pf/LM/LM5102.html; ComponentLink3Description: MUB10A Package Drawing; ComponentLink3URL: http://www.national.com/packaging/folders/mub10a.html
footprint MUB10A_N (TSSOP, 10-Leads, Body 3x3mm, Pitch 0.5mm, IPC Medium Density)
footprint MUB10A_L (TSSOP, 10-Leads, Body 3x3mm, Pitch 0.5mm, IPC High Density)
footprint MUB10A_M (TSSOP, 10-Leads, Body 3x3mm, Pitch 0.5mm, IPC Low Density)
pins: 1 VDD (power), 2 HB (in), 3 HO (out), 4 HS (in), 5 RT1 (in), 6 RT2 (in), 7 HI (in), 8 LI (in), 9 VSS (power), 10 LO (out)

## LM5102SD
designator U?
High Voltage Half-Bridge Gate Driver with Programmable Delay; PartNumber: LM5102SD; Manufacturer: National Semiconductor; CompType: Switcher; PackageTopMarking: NS*UZXYTT*5102SD; FirstPublished: 4-Dec-2008; DatasheetVersion: Jan-2004; PackageVersion: revA, May-2003; PackageReference: SDC10A; Publisher: Altium Limited; PackageDescription: LLP, Plastic, Dual, 4 x 4 x 0.8mm Body, 10 Lead, 0.8mm Pitch, No Pullback; RoHS: Y; PinCount: 10; DigiKeyPartNumber: LM5102SDCT-ND; ComponentLink1Description: LM5102 Datasheet; ComponentLink1URL: http://www.national.com/ds/LM/LM5102.pdf; ComponentLink2Description: LM5102 Web Page; ComponentLink2URL: http://www.national.com/pf/LM/LM5102.html; ComponentLink3Description: SDC10A Package Drawing; ComponentLink3URL: http://www.national.com/packaging/folders/sdc10a.html
footprint SDC10A (SON, 10-Leads, Body 4x4 mm, Pitch 0.8mm, NSC Recommended)
pins: 1 VDD (power), 2 HB (in), 3 HO (out), 4 HS (in), 5 RT1 (in), 6 RT2 (in), 7 HI (in), 8 LI (in), 9 VSS (power), 10 LO (out), 11 EP (power)

## LM5104M
designator U?
High Voltage Half-Bridge Gate Driver with Adaptive Delay; PartNumber: LM5104M; Manufacturer: National Semiconductor; CompType: Switcher; PackageTopMarking: NSZXTT*5104*M; FirstPublished: 4-Dec-2008; DatasheetVersion: Feb-2005; PackageVersion: revL, Sep-2006; PackageReference: M08A; Publisher: Altium Limited; PackageDescription: SOIC Narrow, 4.9 x 3.9 x 1.45mm, 8 Lead, 1.27mm Pitch; RoHS: O; PinCount: 8; DigiKeyPartNumber: LM5104M-ND; Code_JEDEC: MS-012-AA; Code_IPC: SOIC127P600-8; ComponentLink1Description: LM5104 Datasheet; ComponentLink1URL: http://www.national.com/ds/LM/LM5104.pdf; ComponentLink2Description: LM5104 Web Page; ComponentLink2URL: http://www.national.com/pf/LM/LM5104.html; ComponentLink3Description: M08A Package Drawing; ComponentLink3URL: http://www.national.com/packaging/folders/m08a.html
footprint M08A_N (SOIC, 8-Leads, Body 4.9x3.9mm, Pitch 1.27mm, IPC Medium Density)
footprint M08A_L (SOIC, 8-Leads, Body 4.9x3.9mm, Pitch 1.27mm, IPC High Density)
footprint M08A_M (SOIC, 8-Leads, Body 4.9x3.9mm, Pitch 1.27mm, IPC Low Density)
pins: 1 VDD (power), 2 HB (in), 3 HO (out), 4 HS (in), 5 RT (in), 6 IN (in), 7 VSS (power), 8 LO (out)

## LM5105SD
designator U?
100V Half Bridge Gate Driver with Programmable Dead-Time; PartNumber: LM5105SD; Manufacturer: National Semiconductor; CompType: Switcher; PackageTopMarking: NS*UZXYTT*L5105SD; FirstPublished: 4-Dec-2008; DatasheetVersion: Feb-2006; PackageVersion: revA, May-2003; PackageReference: SDC10A; Publisher: Altium Limited; PackageDescription: LLP, Plastic, Dual, 4 x 4 x 0.8mm Body, 10 Lead, 0.8mm Pitch, No Pullback; RoHS: O; PinCount: 10; DigiKeyPartNumber: LM5105SDCT-ND; ComponentLink1Description: LM5105 Datasheet; ComponentLink1URL: http://www.national.com/ds/LM/LM5105.pdf; ComponentLink2Description: LM5105 Web Page; ComponentLink2URL: http://www.national.com/pf/LM/LM5105.html; ComponentLink3Description: SDC10A Package Drawing; ComponentLink3URL: http://www.national.com/packaging/folders/sdc10a.html
footprint SDC10A (SON, 10-Leads, Body 4x4 mm, Pitch 0.8mm, NSC Recommended)
pins: 1 VDD (power), 2 HB (in), 3 HO (out), 4 HS (in), 5 NC, 6 RDT (in), 7 EN (in), 8 IN (in), 9 VSS (power), 10 LO (out), 11 EP (power)

## LM5106MM
designator U?
100V Half Bridge Gate Driver with Programmable Dead-Time; PartNumber: LM5106MM; Manufacturer: National Semiconductor; CompType: Switcher; PackageTopMarking: ZXTT*5106; FirstPublished: 4-Dec-2008; DatasheetVersion: Jun-2006; PackageVersion: revB, Jul-2003; PackageReference: MUB10A; Publisher: Altium Limited; PackageDescription: Mini-SO, Molded, .118 x .118 x .034in Body, 10 Lead, .0197in Pitch; RoHS: Y; PinCount: 10; DigiKeyPartNumber: LM5106MMCT-ND; Code_JEDEC: MO-187-BA; ComponentLink1Description: LM5106 Datasheet; ComponentLink1URL: http://www.national.com/ds/LM/LM5106.pdf; ComponentLink2Description: LM5106 Web Page; ComponentLink2URL: http://www.national.com/pf/LM/LM5106.html; ComponentLink3Description: MUB10A Package Drawing; ComponentLink3URL: http://www.national.com/packaging/folders/mub10a.html
footprint MUB10A_N (TSSOP, 10-Leads, Body 3x3mm, Pitch 0.5mm, IPC Medium Density)
footprint MUB10A_L (TSSOP, 10-Leads, Body 3x3mm, Pitch 0.5mm, IPC High Density)
footprint MUB10A_M (TSSOP, 10-Leads, Body 3x3mm, Pitch 0.5mm, IPC Low Density)
pins: 1 VDD (power), 2 HB (in), 3 HO (out), 4 HS (in), 5 NC, 6 RDT (in), 7 EN (in), 8 IN (in), 9 VSS (power), 10 LO (out)

## LM5106SD
designator U?
100V Half Bridge Gate Driver with Programmable Dead-Time; PartNumber: LM5106SD; Manufacturer: National Semiconductor; CompType: Switcher; PackageTopMarking: NS*UZXYTT*L5106SD; FirstPublished: 4-Dec-2008; DatasheetVersion: Jun-2006; PackageVersion: revA, May-2003; PackageReference: SDC10A; Publisher: Altium Limited; PackageDescription: LLP, Plastic, Dual, 4 x 4 x 0.8mm Body, 10 Lead, 0.8mm Pitch, No Pullback; RoHS: Y; PinCount: 10; DigiKeyPartNumber: LM5106SDCT-ND; ComponentLink1Description: LM5106 Datasheet; ComponentLink1URL: http://www.national.com/ds/LM/LM5106.pdf; ComponentLink2Description: LM5106 Web Page; ComponentLink2URL: http://www.national.com/pf/LM/LM5106.html; ComponentLink3Description: SDC10A Package Drawing; ComponentLink3URL: http://www.national.com/packaging/folders/sdc10a.html
footprint SDC10A (SON, 10-Leads, Body 4x4 mm, Pitch 0.8mm, NSC Recommended)
pins: 1 VDD (power), 2 HB (in), 3 HO (out), 4 HS (in), 5 NC, 6 RDT (in), 7 EN (in), 8 IN (in), 9 VSS (power), 10 LO (out), 11 EP (power)

## LM5107MA
designator U?
100V / 1.4A Peak Half Bridge Gate Driver; PartNumber: LM5107MA; Manufacturer: National Semiconductor; CompType: Switcher; PackageTopMarking: NSZXTT*L5107*MA; FirstPublished: 4-Dec-2008; DatasheetVersion: Mar-2005; PackageVersion: revL, Sep-2006; PackageReference: M08A; Publisher: Altium Limited; PackageDescription: SOIC Narrow, 4.9 x 3.9 x 1.45mm, 8 Lead, 1.27mm Pitch; RoHS: Y; PinCount: 8; DigiKeyPartNumber: LM5107MA-ND; Code_JEDEC: MS-012-AA; Code_IPC: SOIC127P600-8; ComponentLink1Description: LM5107 Datasheet; ComponentLink1URL: http://www.national.com/ds/LM/LM5107.pdf; ComponentLink2Description: LM5107 Web Page; ComponentLink2URL: http://www.national.com/pf/LM/LM5107.html; ComponentLink3Description: M08A Package Drawing; ComponentLink3URL: http://www.national.com/packaging/folders/m08a.html
footprint M08A_N (SOIC, 8-Leads, Body 4.9x3.9mm, Pitch 1.27mm, IPC Medium Density)
footprint M08A_L (SOIC, 8-Leads, Body 4.9x3.9mm, Pitch 1.27mm, IPC High Density)
footprint M08A_M (SOIC, 8-Leads, Body 4.9x3.9mm, Pitch 1.27mm, IPC Low Density)
pins: 1 VDD (power), 2 HI (in), 3 LI (in), 4 VSS (power), 5 LO (out), 6 HS (in), 7 HO (out), 8 HB (in)

## LM5107SD
designator U?
100V / 1.4A Peak Half Bridge Gate Driver; PartNumber: LM5107SD; Manufacturer: National Semiconductor; CompType: Switcher; PackageTopMarking: NS*UZXYTT*L5107SD; FirstPublished: 4-Dec-2008; DatasheetVersion: Mar-2005; PackageVersion: revA, Jun-2003; PackageReference: SDC08A; Publisher: Altium Limited; PackageDescription: LLP, Plastic, Dual, 4 x 4 x 0.8mm Body, 8 Lead, 0.8mm Pitch, No Pullback; RoHS: Y; PinCount: 8; DigiKeyPartNumber: LM5107SDCT-ND; ComponentLink1Description: LM5107 Datasheet; ComponentLink1URL: http://www.national.com/ds/LM/LM5107.pdf; ComponentLink2Description: LM5107 Web Page; ComponentLink2URL: http://www.national.com/pf/LM/LM5107.html; ComponentLink3Description: SDC08A Package Drawing; ComponentLink3URL: http://www.national.com/packaging/folders/sdc08a.html
footprint SDC08A (SON, 8-Leads, Body 4x4mm, Pitch 0.8mm, NSC Recommended)
pins: 1 VDD (power), 2 HI (in), 3 LI (in), 4 VSS (power), 5 LO (out), 6 HS (in), 7 HO (out), 8 HB (in), 9 EP (power)

## LM5109BMA
designator U?
High Voltage 1A Peak Half Bridge Gate Driver; PartNumber: LM5109BMA; Manufacturer: National Semiconductor; CompType: Switcher; PackageTopMarking: NSZXTT*L5109*BMA; FirstPublished: 4-Dec-2008; DatasheetVersion: Feb-2007; PackageVersion: revL, Sep-2006; PackageReference: M08A; Publisher: Altium Limited; PackageDescription: SOIC Narrow, 4.9 x 3.9 x 1.45mm, 8 Lead, 1.27mm Pitch; RoHS: Y; PinCount: 8; DigiKeyPartNumber: LM5109BMA-ND; Code_JEDEC: MS-012-AA; Code_IPC: SOIC127P600-8; ComponentLink1Description: LM5109B Datasheet; ComponentLink1URL: http://www.national.com/ds/LM/LM5109B.pdf; ComponentLink2Description: LM5109B Web Page; ComponentLink2URL: http://www.national.com/pf/LM/LM5109B.html; ComponentLink3Description: M08A Package Drawing; ComponentLink3URL: http://www.national.com/packaging/folders/m08a.html
footprint M08A_N (SOIC, 8-Leads, Body 4.9x3.9mm, Pitch 1.27mm, IPC Medium Density)
footprint M08A_L (SOIC, 8-Leads, Body 4.9x3.9mm, Pitch 1.27mm, IPC High Density)
footprint M08A_M (SOIC, 8-Leads, Body 4.9x3.9mm, Pitch 1.27mm, IPC Low Density)
pins: 1 VDD (power), 2 HI (in), 3 LI (in), 4 VSS (power), 5 LO (out), 6 HS (in), 7 HO (out), 8 HB (in)

## LM5109BSD
designator U?
High Voltage 1A Peak Half Bridge Gate Driver; PartNumber: LM5109BSD; Manufacturer: National Semiconductor; CompType: Switcher; PackageTopMarking: NS*UZXYTT*5109BSD; FirstPublished: 4-Dec-2008; DatasheetVersion: Feb-2007; PackageVersion: revA, Jun-2003; PackageReference: SDC08A; Publisher: Altium Limited; PackageDescription: LLP, Plastic, Dual, 4 x 4 x 0.8mm Body, 8 Lead, 0.8mm Pitch, No Pullback; RoHS: Y; PinCount: 8; DigiKeyPartNumber: LM5109BSDCT-ND; ComponentLink1Description: LM5109B Datasheet; ComponentLink1URL: http://www.national.com/ds/LM/LM5109B.pdf; ComponentLink2Description: LM5109B Web Page; ComponentLink2URL: http://www.national.com/pf/LM/LM5109B.html; ComponentLink3Description: SDC08A Package Drawing; ComponentLink3URL: http://www.national.com/packaging/folders/sdc08a.html
footprint SDC08A (SON, 8-Leads, Body 4x4mm, Pitch 0.8mm, NSC Recommended)
pins: 1 VDD (power), 2 HI (in), 3 LI (in), 4 VSS (power), 5 LO (out), 6 HS (in), 7 HO (out), 8 HB (in), 9 EP (power)

## LM5110-1M
designator U?
Dual 5A Compound Gate Driver with Negative Output Voltage Capability; PartNumber: LM5110-1M; Manufacturer: National Semiconductor; CompType: Switcher; PackageTopMarking: NSZXTT*5110*-1M; PowerWise: N; FirstPublished: 4-Dec-2008; DatasheetVersion: Oct-2003; PackageVersion: revL, Sep-2006; PackageReference: M08A; Publisher: Altium Limited; PackageDescription: SOIC Narrow, 4.9 x 3.9 x 1.45mm, 8 Lead, 1.27mm Pitch; RoHS: Y; PinCount: 8; DigiKeyPartNumber: LM5110-1M-ND; Code_JEDEC: MS-012-AA; Code_IPC: SOIC127P600-8; ComponentLink1Description: LM5110 Datasheet; ComponentLink1URL: http://www.national.com/ds/LM/LM5110.pdf; ComponentLink2Description: LM5110 Web Page; ComponentLink2URL: http://www.national.com/pf/LM/LM5110.html; ComponentLink3Description: M08A Package Drawing; ComponentLink3URL: http://www.national.com/packaging/folders/m08a.html
footprint M08A_N (SOIC, 8-Leads, Body 4.9x3.9mm, Pitch 1.27mm, IPC Medium Density)
footprint M08A_L (SOIC, 8-Leads, Body 4.9x3.9mm, Pitch 1.27mm, IPC High Density)
footprint M08A_M (SOIC, 8-Leads, Body 4.9x3.9mm, Pitch 1.27mm, IPC Low Density)
pins: 1 IN_REF (power), 2 IN_A (power), 3 VEE (power), 4 IN_B (power), 5 OUT_B (power), 6 VCC (power), 7 OUT_A (power), 8 ~{SHDN} (in)

## LM5110-1SD
designator U?
Dual 5A Compound Gate Driver with Negative Output Voltage Capability; PartNumber: LM5110-1SD; Manufacturer: National Semiconductor; CompType: Switcher; PackageTopMarking: NS*UZXYTT*5110-1; PowerWise: N; FirstPublished: 4-Dec-2008; DatasheetVersion: Oct-2003; PackageVersion: revA, May-2003; PackageReference: SDC10A; Publisher: Altium Limited; PackageDescription: LLP, Plastic, Dual, 4 x 4 x 0.8mm Body, 10 Lead, 0.8mm Pitch, No Pullback; RoHS: O; PinCount: 10; DigiKeyPartNumber: LM5110-1SDCT-ND; ComponentLink1Description: LM5110 Datasheet; ComponentLink1URL: http://www.national.com/ds/LM/LM5110.pdf; ComponentLink2Description: LM5110 Web Page; ComponentLink2URL: http://www.national.com/pf/LM/LM5110.html; ComponentLink3Description: SDC10A Package Drawing; ComponentLink3URL: http://www.national.com/packaging/folders/sdc10a.html
footprint SDC10A (SON, 10-Leads, Body 4x4 mm, Pitch 0.8mm, NSC Recommended)
pins: 1 IN_REF (power), 2 IN_A (power), 3 VEE (power), 4 IN_B (power), 5 NC, 6 NC, 7 OUT_B (power), 8 VCC (power), 9 OUT_A (power), 10 ~{SHDN} (in), 11 DAP (power)

## LM5110-2M
designator U?
Dual 5A Compound Gate Driver with Negative Output Voltage Capability; PartNumber: LM5110-2M; Manufacturer: National Semiconductor; CompType: Switcher; PackageTopMarking: NSZXTT*5110*-2M; PowerWise: N; FirstPublished: 4-Dec-2008; DatasheetVersion: Oct-2003; PackageVersion: revL, Sep-2006; PackageReference: M08A; Publisher: Altium Limited; PackageDescription: SOIC Narrow, 4.9 x 3.9 x 1.45mm, 8 Lead, 1.27mm Pitch; RoHS: O; PinCount: 8; DigiKeyPartNumber: LM5110-2M-ND; Code_JEDEC: MS-012-AA; Code_IPC: SOIC127P600-8; ComponentLink1Description: LM5110 Datasheet; ComponentLink1URL: http://www.national.com/ds/LM/LM5110.pdf; ComponentLink2Description: LM5110 Web Page; ComponentLink2URL: http://www.national.com/pf/LM/LM5110.html; ComponentLink3Description: M08A Package Drawing; ComponentLink3URL: http://www.national.com/packaging/folders/m08a.html
footprint M08A_N (SOIC, 8-Leads, Body 4.9x3.9mm, Pitch 1.27mm, IPC Medium Density)
footprint M08A_L (SOIC, 8-Leads, Body 4.9x3.9mm, Pitch 1.27mm, IPC High Density)
footprint M08A_M (SOIC, 8-Leads, Body 4.9x3.9mm, Pitch 1.27mm, IPC Low Density)
pins: 1 IN_REF (power), 2 IN_A (power), 3 VEE (power), 4 IN_B (power), 5 OUT_B (power), 6 VCC (power), 7 OUT_A (power), 8 ~{SHDN} (in)

## LM5110-2SD
designator U?
Dual 5A Compound Gate Driver with Negative Output Voltage Capability; PartNumber: LM5110-2SD; Manufacturer: National Semiconductor; CompType: Switcher; PackageTopMarking: NS*UZXYTT*5110-2; PowerWise: N; FirstPublished: 4-Dec-2008; DatasheetVersion: Oct-2003; PackageVersion: revA, May-2003; PackageReference: SDC10A; Publisher: Altium Limited; PackageDescription: LLP, Plastic, Dual, 4 x 4 x 0.8mm Body, 10 Lead, 0.8mm Pitch, No Pullback; RoHS: Y; PinCount: 10; DigiKeyPartNumber: LM5110-2SDCT-ND; ComponentLink1Description: LM5110 Datasheet; ComponentLink1URL: http://www.national.com/ds/LM/LM5110.pdf; ComponentLink2Description: LM5110 Web Page; ComponentLink2URL: http://www.national.com/pf/LM/LM5110.html; ComponentLink3Description: SDC10A Package Drawing; ComponentLink3URL: http://www.national.com/packaging/folders/sdc10a.html
footprint SDC10A (SON, 10-Leads, Body 4x4 mm, Pitch 0.8mm, NSC Recommended)
pins: 1 IN_REF (power), 2 IN_A (power), 3 VEE (power), 4 IN_B (power), 5 NC, 6 NC, 7 OUT_B (power), 8 VCC (power), 9 OUT_A (power), 10 ~{SHDN} (in), 11 DAP (power)

## LM5110-3M
designator U?
Dual 5A Compound Gate Driver with Negative Output Voltage Capability; PartNumber: LM5110-3M; Manufacturer: National Semiconductor; CompType: Switcher; PackageTopMarking: NSZXTT*5110*-3M; PowerWise: N; FirstPublished: 4-Dec-2008; DatasheetVersion: Oct-2003; PackageVersion: revL, Sep-2006; PackageReference: M08A; Publisher: Altium Limited; PackageDescription: SOIC Narrow, 4.9 x 3.9 x 1.45mm, 8 Lead, 1.27mm Pitch; RoHS: Y; PinCount: 8; DigiKeyPartNumber: LM5110-3M-ND; Code_JEDEC: MS-012-AA; Code_IPC: SOIC127P600-8; ComponentLink1Description: LM5110 Datasheet; ComponentLink1URL: http://www.national.com/ds/LM/LM5110.pdf; ComponentLink2Description: LM5110 Web Page; ComponentLink2URL: http://www.national.com/pf/LM/LM5110.html; ComponentLink3Description: M08A Package Drawing; ComponentLink3URL: http://www.national.com/packaging/folders/m08a.html
footprint M08A_N (SOIC, 8-Leads, Body 4.9x3.9mm, Pitch 1.27mm, IPC Medium Density)
footprint M08A_L (SOIC, 8-Leads, Body 4.9x3.9mm, Pitch 1.27mm, IPC High Density)
footprint M08A_M (SOIC, 8-Leads, Body 4.9x3.9mm, Pitch 1.27mm, IPC Low Density)
pins: 1 IN_REF (power), 2 IN_A (power), 3 VEE (power), 4 IN_B (power), 5 OUT_B (power), 6 VCC (power), 7 OUT_A (power), 8 ~{SHDN} (in)

## LM5110-3SD
designator U?
Dual 5A Compound Gate Driver with Negative Output Voltage Capability; PartNumber: LM5110-3SD; Manufacturer: National Semiconductor; CompType: Switcher; PackageTopMarking: NS*UZXYTT*5110-3; PowerWise: N; FirstPublished: 4-Dec-2008; DatasheetVersion: Oct-2003; PackageVersion: revA, May-2003; PackageReference: SDC10A; Publisher: Altium Limited; PackageDescription: LLP, Plastic, Dual, 4 x 4 x 0.8mm Body, 10 Lead, 0.8mm Pitch, No Pullback; RoHS: Y; PinCount: 10; DigiKeyPartNumber: LM5110-3SDCT-ND; ComponentLink1Description: LM5110 Datasheet; ComponentLink1URL: http://www.national.com/ds/LM/LM5110.pdf; ComponentLink2Description: LM5110 Web Page; ComponentLink2URL: http://www.national.com/pf/LM/LM5110.html; ComponentLink3Description: SDC10A Package Drawing; ComponentLink3URL: http://www.national.com/packaging/folders/sdc10a.html
footprint SDC10A (SON, 10-Leads, Body 4x4 mm, Pitch 0.8mm, NSC Recommended)
pins: 1 IN_REF (power), 2 IN_A (power), 3 VEE (power), 4 IN_B (power), 5 NC, 6 NC, 7 OUT_B (power), 8 VCC (power), 9 OUT_A (power), 10 ~{SHDN} (in), 11 DAP (power)

## LM5111-1M
designator U?
Dual 5A Compound Gate Driver; PartNumber: LM5111-1M; Manufacturer: National Semiconductor; CompType: Switcher; PackageTopMarking: NSXYTT*5111*-1M; PowerWise: N; FirstPublished: 4-Dec-2008; DatasheetVersion: Nov-2007; PackageVersion: revL, Sep-2006; PackageReference: M08A; Publisher: Altium Limited; PackageDescription: SOIC Narrow, 4.9 x 3.9 x 1.45mm, 8 Lead, 1.27mm Pitch; RoHS: Y; PinCount: 8; DigiKeyPartNumber: LM5111-1M-ND; Code_JEDEC: MS-012-AA; Code_IPC: SOIC127P600-8; ComponentLink1Description: LM5111 Datasheet; ComponentLink1URL: http://www.national.com/ds/LM/LM5111.pdf; ComponentLink2Description: LM5111 Web Page; ComponentLink2URL: http://www.national.com/pf/LM/LM5111.html; ComponentLink3Description: M08A Package Drawing; ComponentLink3URL: http://www.national.com/packaging/folders/m08a.html
footprint M08A_N (SOIC, 8-Leads, Body 4.9x3.9mm, Pitch 1.27mm, IPC Medium Density)
footprint M08A_L (SOIC, 8-Leads, Body 4.9x3.9mm, Pitch 1.27mm, IPC High Density)
footprint M08A_M (SOIC, 8-Leads, Body 4.9x3.9mm, Pitch 1.27mm, IPC Low Density)
pins: 1 NC, 2 IN_A (power), 3 VEE (power), 4 IN_B (power), 5 OUT_B (power), 6 VCC (power), 7 OUT_A (power), 8 NC

## LM5111-1MX
designator U?
Dual 5A Compound Gate Driver; PartNumber: LM5111-1MX; Manufacturer: National Semiconductor; CompType: Switcher; PackageTopMarking: NSZXTT*5111*-1M; PowerWise: N; FirstPublished: 4-Dec-2008; DatasheetVersion: Nov-2007; PackageVersion: revL, Sep-2006; PackageReference: M08A; Publisher: Altium Limited; PackageDescription: SOIC Narrow, 4.9 x 3.9 x 1.45mm, 8 Lead, 1.27mm Pitch; RoHS: O; PinCount: 8; DigiKeyPartNumber: LM5111-1MX-ND; Code_JEDEC: MS-012-AA; Code_IPC: SOIC127P600-8; ComponentLink1Description: LM5111 Datasheet; ComponentLink1URL: http://www.national.com/ds/LM/LM5111.pdf; ComponentLink2Description: LM5111 Web Page; ComponentLink2URL: http://www.national.com/pf/LM/LM5111.html; ComponentLink3Description: M08A Package Drawing; ComponentLink3URL: http://www.national.com/packaging/folders/m08a.html
footprint M08A_N (SOIC, 8-Leads, Body 4.9x3.9mm, Pitch 1.27mm, IPC Medium Density)
footprint M08A_L (SOIC, 8-Leads, Body 4.9x3.9mm, Pitch 1.27mm, IPC High Density)
footprint M08A_M (SOIC, 8-Leads, Body 4.9x3.9mm, Pitch 1.27mm, IPC Low Density)
pins: 1 NC, 2 IN_A (power), 3 VEE (power), 4 IN_B (power), 5 OUT_B (power), 6 VCC (power), 7 OUT_A (power), 8 NC

## LM5111-1MY
designator U?
Dual 5A Compound Gate Driver; PartNumber: LM5111-1MY; Manufacturer: National Semiconductor; CompType: Switcher; PackageTopMarking: ZXTT*SJKB; PowerWise: N; FirstPublished: 4-Dec-2008; DatasheetVersion: Nov-2007; PackageVersion: revA, Nov-2003; PackageReference: MUY08A; Publisher: Altium Limited; PackageDescription: Molded Mini-SO, Exposed Pad, .118 x .118 x .034in Body, 8 Lead, .0256in Pitch; RoHS: O; PinCount: 8; DigiKeyPartNumber: LM5111-1MYCT-ND; Code_JEDEC: MO-187-AA; ComponentLink1Description: LM5111 Datasheet; ComponentLink1URL: http://www.national.com/ds/LM/LM5111.pdf; ComponentLink2Description: LM5111 Web Page; ComponentLink2URL: http://www.national.com/pf/LM/LM5111.html; ComponentLink3Description: MUY08A Package Drawing; ComponentLink3URL: http://www.national.com/packaging/folders/muy08a.html
footprint MUY08A_N (TSOP, 8-Leads, Body 3x3mm, Pitch 0.65mm, Exposed Pad, IPC Medium Density)
footprint MUY08A_L (TSOP, 8-Leads, Body 3x3mm, Pitch 0.65mm, Exposed Pad, IPC High Density)
footprint MUY08A_M (TSOP, 8-Leads, Body 3x3mm, Pitch 0.65mm, Exposed Pad, IPC Low Density)
pins: 1 NC, 2 IN_A (power), 3 VEE (power), 4 IN_B (power), 5 OUT_B (power), 6 VCC (power), 7 OUT_A (power), 8 NC, 9 DAP (power)

## LM5111-2M
designator U?
Dual 5A Compound Gate Driver; PartNumber: LM5111-2M; Manufacturer: National Semiconductor; CompType: Switcher; PackageTopMarking: NSXYTT*5111*-2M; PowerWise: N; FirstPublished: 4-Dec-2008; DatasheetVersion: Nov-2007; PackageVersion: revL, Sep-2006; PackageReference: M08A; Publisher: Altium Limited; PackageDescription: SOIC Narrow, 4.9 x 3.9 x 1.45mm, 8 Lead, 1.27mm Pitch; RoHS: O; PinCount: 8; DigiKeyPartNumber: LM5111-2M-ND; Code_JEDEC: MS-012-AA; Code_IPC: SOIC127P600-8; ComponentLink1Description: LM5111 Datasheet; ComponentLink1URL: http://www.national.com/ds/LM/LM5111.pdf; ComponentLink2Description: LM5111 Web Page; ComponentLink2URL: http://www.national.com/pf/LM/LM5111.html; ComponentLink3Description: M08A Package Drawing; ComponentLink3URL: http://www.national.com/packaging/folders/m08a.html
footprint M08A_N (SOIC, 8-Leads, Body 4.9x3.9mm, Pitch 1.27mm, IPC Medium Density)
footprint M08A_L (SOIC, 8-Leads, Body 4.9x3.9mm, Pitch 1.27mm, IPC High Density)
footprint M08A_M (SOIC, 8-Leads, Body 4.9x3.9mm, Pitch 1.27mm, IPC Low Density)
pins: 1 NC, 2 IN_A (power), 3 VEE (power), 4 IN_B (power), 5 OUT_B (power), 6 VCC (power), 7 OUT_A (power), 8 NC

## LM5111-2MX
designator U?
Dual 5A Compound Gate Driver; PartNumber: LM5111-2MX; Manufacturer: National Semiconductor; CompType: Switcher; PackageTopMarking: NSZXTT*5111*-2M; PowerWise: N; FirstPublished: 4-Dec-2008; DatasheetVersion: Nov-2007; PackageVersion: revL, Sep-2006; PackageReference: M08A; Publisher: Altium Limited; PackageDescription: SOIC Narrow, 4.9 x 3.9 x 1.45mm, 8 Lead, 1.27mm Pitch; RoHS: O; PinCount: 8; DigiKeyPartNumber: LM5111-2MX-ND; Code_JEDEC: MS-012-AA; Code_IPC: SOIC127P600-8; ComponentLink1Description: LM5111 Datasheet; ComponentLink1URL: http://www.national.com/ds/LM/LM5111.pdf; ComponentLink2Description: LM5111 Web Page; ComponentLink2URL: http://www.national.com/pf/LM/LM5111.html; ComponentLink3Description: M08A Package Drawing; ComponentLink3URL: http://www.national.com/packaging/folders/m08a.html
footprint M08A_N (SOIC, 8-Leads, Body 4.9x3.9mm, Pitch 1.27mm, IPC Medium Density)
footprint M08A_L (SOIC, 8-Leads, Body 4.9x3.9mm, Pitch 1.27mm, IPC High Density)
footprint M08A_M (SOIC, 8-Leads, Body 4.9x3.9mm, Pitch 1.27mm, IPC Low Density)
pins: 1 NC, 2 IN_A (power), 3 VEE (power), 4 IN_B (power), 5 OUT_B (power), 6 VCC (power), 7 OUT_A (power), 8 NC

## LM5111-2MY
designator U?
Dual 5A Compound Gate Driver; PartNumber: LM5111-2MY; Manufacturer: National Semiconductor; CompType: Switcher; PackageTopMarking: ZXTT*SJLB; PowerWise: N; FirstPublished: 4-Dec-2008; DatasheetVersion: Nov-2007; PackageVersion: revA, Nov-2003; PackageReference: MUY08A; Publisher: Altium Limited; PackageDescription: Molded Mini-SO, Exposed Pad, .118 x .118 x .034in Body, 8 Lead, .0256in Pitch; RoHS: Y; PinCount: 8; DigiKeyPartNumber: LM5111-2MYCT-ND; Code_JEDEC: MO-187-AA; ComponentLink1Description: LM5111 Datasheet; ComponentLink1URL: http://www.national.com/ds/LM/LM5111.pdf; ComponentLink2Description: LM5111 Web Page; ComponentLink2URL: http://www.national.com/pf/LM/LM5111.html; ComponentLink3Description: MUY08A Package Drawing; ComponentLink3URL: http://www.national.com/packaging/folders/muy08a.html
footprint MUY08A_N (TSOP, 8-Leads, Body 3x3mm, Pitch 0.65mm, Exposed Pad, IPC Medium Density)
footprint MUY08A_L (TSOP, 8-Leads, Body 3x3mm, Pitch 0.65mm, Exposed Pad, IPC High Density)
footprint MUY08A_M (TSOP, 8-Leads, Body 3x3mm, Pitch 0.65mm, Exposed Pad, IPC Low Density)
pins: 1 NC, 2 IN_A (power), 3 VEE (power), 4 IN_B (power), 5 OUT_B (power), 6 VCC (power), 7 OUT_A (power), 8 NC, 9 DAP (power)

## LM5111-3M
designator U?
Dual 5A Compound Gate Driver; PartNumber: LM5111-3M; Manufacturer: National Semiconductor; CompType: Switcher; PackageTopMarking: NSXYTT*5111*-3M; PowerWise: N; FirstPublished: 4-Dec-2008; DatasheetVersion: Nov-2007; PackageVersion: revL, Sep-2006; PackageReference: M08A; Publisher: Altium Limited; PackageDescription: SOIC Narrow, 4.9 x 3.9 x 1.45mm, 8 Lead, 1.27mm Pitch; RoHS: Y; PinCount: 8; DigiKeyPartNumber: LM5111-3M-ND; Code_JEDEC: MS-012-AA; Code_IPC: SOIC127P600-8; ComponentLink1Description: LM5111 Datasheet; ComponentLink1URL: http://www.national.com/ds/LM/LM5111.pdf; ComponentLink2Description: LM5111 Web Page; ComponentLink2URL: http://www.national.com/pf/LM/LM5111.html; ComponentLink3Description: M08A Package Drawing; ComponentLink3URL: http://www.national.com/packaging/folders/m08a.html
footprint M08A_N (SOIC, 8-Leads, Body 4.9x3.9mm, Pitch 1.27mm, IPC Medium Density)
footprint M08A_L (SOIC, 8-Leads, Body 4.9x3.9mm, Pitch 1.27mm, IPC High Density)
footprint M08A_M (SOIC, 8-Leads, Body 4.9x3.9mm, Pitch 1.27mm, IPC Low Density)
pins: 1 NC, 2 IN_A (power), 3 VEE (power), 4 IN_B (power), 5 OUT_B (power), 6 VCC (power), 7 OUT_A (power), 8 NC